# Altium schematic symbol library TempCompLib.SchLib: 1 symbol
Pins are listed as number, name and electrical type; pins without a type are passive.

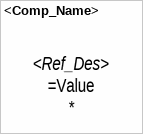
[diagram p0: symbol <Comp_Name>]

## <Comp_Name>
designator <Ref_Des>
<element_assignmen>; Manufacturer: *; HelpURL: *; Value: =Value